# Altium footprint library PcbLib1.PcbLib: 1 footprints
Each footprint in its own frame and in the unit in brackets; x right, y up, seen from the top. Pads: shape width x height; smd on the part's side, far side on the other; paste and mask are expansions set on the pad; w line width, h text height; cw(c..) or ccw(c..) is an arc to the next point about the centre after c.
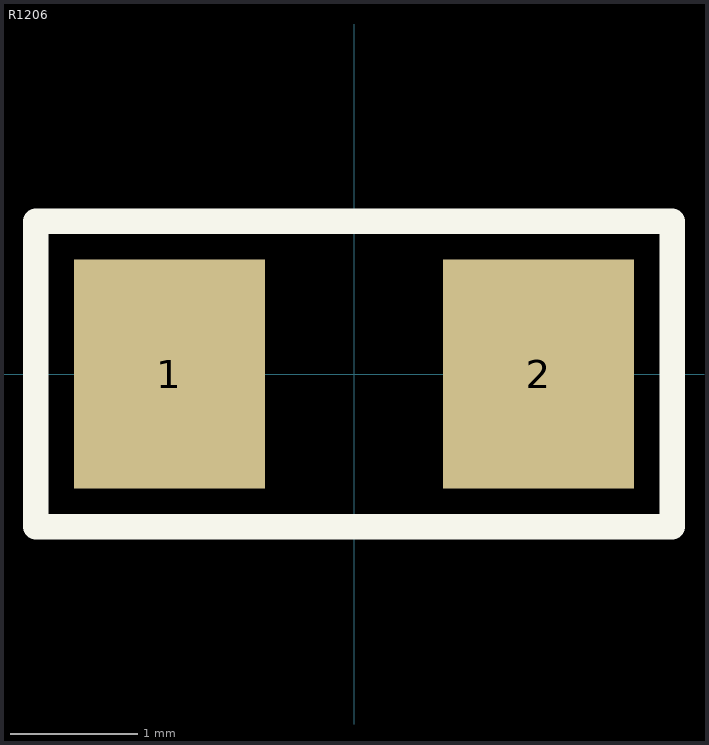
[diagram p0: the footprint, top view; thin cyan lines are the x and y axes]

## R1206 [mm]
pads (2):
  rect 1.5x1.8 smd: 1(-1.45,0) 2(1.45,0)
Top Overlay:
  lines w0.2: -2.5,-1.2 -2.5,0 -2.5,1.2 2.5,1.2 2.5,-1.2 -2.5,-1.2
3D body: height 0.6, standoff 0, extent -0.85,-0.85 0.85,0.85
3D body: height 0.6, standoff 0, extent 0.85,-0.85 1.6,0.85
3D body: height 0.6, standoff 0, extent -1.6,-0.85 -0.85,0.85